# Altium footprint library IEEE_Workshop_Footprints.PcbLib: 26 footprints (part 1 of 2)
Each footprint in its own frame and in the unit in brackets; x right, y up, seen from the top. Pads: shape width x height; smd on the part's side, far side on the other; paste and mask are expansions set on the pad; w line width, h text height; cw(c..) or ccw(c..) is an arc to the next point about the centre after c.
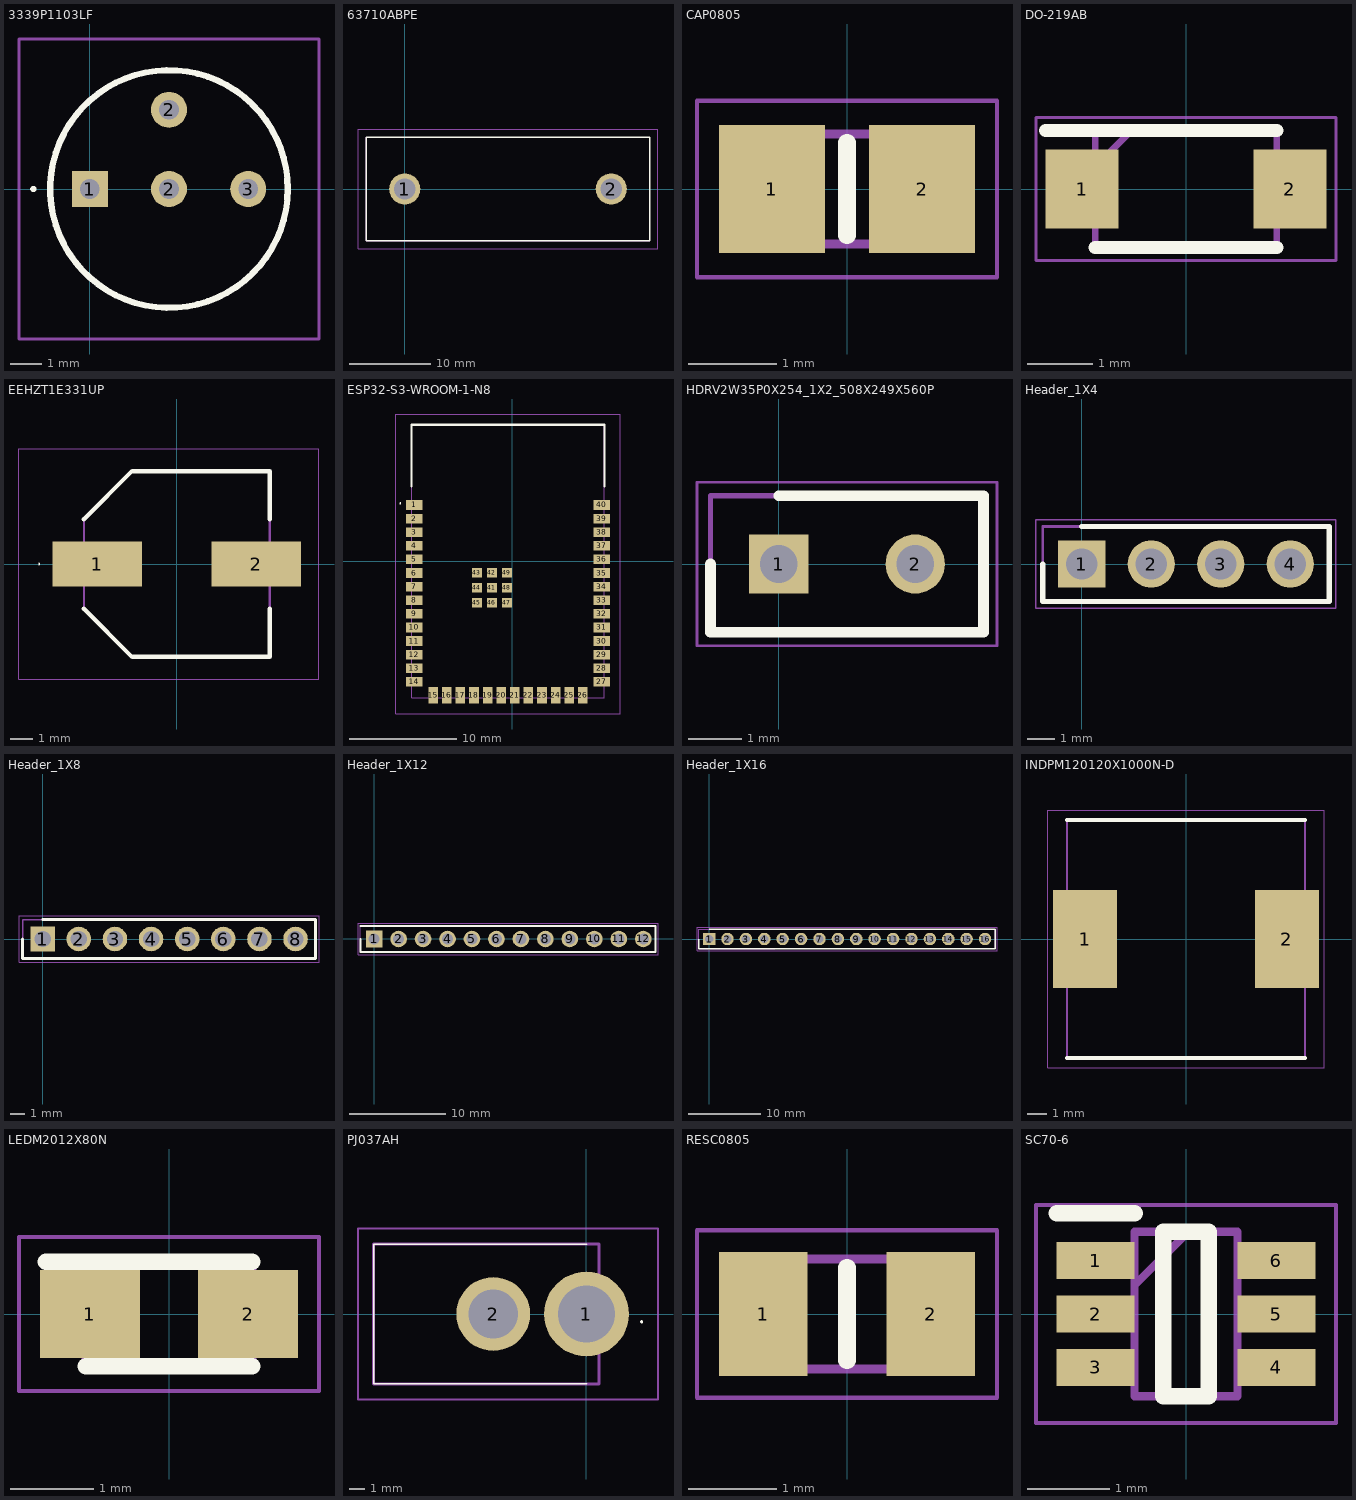
[diagram p0: the footprints below, top view; thin cyan lines are the x and y axes]

## 3339P1103LF [mm]
pads (4):
  rect 1.155x1.155 hole 0.63: 1(0,0)
  round 1.155 hole 0.63: 2(2.54,0) 2(2.54,2.54) 3(5.08,0)
Top Overlay:
  circle w0.2: c2.54,0 r3.81
  lines w0.1: -1.86,0 ccw(c-1.81,0) -1.76,0 ccw(c-1.81,0) -1.86,0
Mechanical 13:
  circle w0.1: c2.54,0 r3.81
Mechanical 15:
  lines w0.1: -2.27,-4.81 7.35,-4.81 7.35,4.81 -2.27,4.81 -2.27,-4.81
3D body "3339P-1-103LF.stp": height 6.42, standoff -4.69, extent -1.27,-3.81 6.35,3.81

## 63710ABPE [mm]
pads (2):
  round 3.84 hole 2.6: 1(0,0) 2(25.4,0)
Top Overlay:
  lines w0.2: -4.75,-6.35 -4.75,6.35 30.15,6.35 30.15,-6.35 -4.75,-6.35
Mechanical 13:
  lines w0.1: -4.75,-6.35 -4.75,6.35 30.15,6.35 30.15,-6.35 -4.75,-6.35
Mechanical 15:
  lines w0.1: -5.75,-7.35 -5.75,7.35 31.15,7.35 31.15,-7.35 -5.75,-7.35
3D body "637-10ABPE.stp": height 25.7, standoff -3.7, extent -5.035,-6.289 30.435,6.289

## CAP0805 [mm] "Chip Capacitor, 2-Leads, Body 2.00x1.20mm, IPC Medium Density"
pads (2):
  rect 1.2x1.45 smd: 1(-0.85,0) 2(0.85,0)
Top Overlay:
  lines w0.2: 0,-0.525 0,0.525
Mechanical 13:
  lines w0.1: -1,-0.625 -1,0.625 1,0.625 1,-0.625 -1,-0.625
Mechanical 15:
  lines w0.05: -1.7,-1 -1.7,1 1.7,1 1.7,-1 -1.7,-1
3D body "HZ0805D102R-10.stp": height 1.1, standoff 0, extent -1,-0.625 1,0.625

## DO-219AB [mm]
pads (2):
  rect 1.12x1.22 smd: 1(-1.6,0) 2(1.6,0)
Top Overlay:
  lines w0.2: -2.16,0.9 1.4,0.9 ; -1.4,-0.9 1.4,-0.9
Mechanical 13:
  lines w0.1: -1.4,0.34 -0.84,0.9 ; -1.4,-0.9 -1.4,0.9 1.4,0.9 1.4,-0.9 -1.4,-0.9
Mechanical 15:
  lines w0.05: -2.31,-1.1 -2.31,1.1 2.31,1.1 2.31,-1.1 -2.31,-1.1
3D body "V3FM10-M3_H.stp": height 1.08, standoff 0, extent -1.85,-0.9 1.85,0.9

## EEHZT1E331UP [mm]
pads (2):
  rect 4x2 smd: 1(-3.55,0) 2(3.55,0)
Top Overlay:
  lines w0.05: -6.175,0 ccw(c-6.15,0) -6.125,0 ccw(c-6.15,0) -6.175,0
  lines w0.2: -4.15,-2 -2,-4.15 4.15,-4.15 4.15,-2 ; -4.15,2 -2,4.15 4.15,4.15 4.15,2
Mechanical 13:
  lines w0.1: -4.15,2 -2,4.15 ; -4.15,2 -4.15,-2 -2,-4.15 4.15,-4.15 4.15,4.15 -2,4.15 ; -4.15,2 -2,4.15
Mechanical 15:
  lines w0.05: -7.05,-5.15 6.35,-5.15 6.35,5.15 -7.05,5.15 -7.05,-5.15
3D body "EEE-FN1V271UP.stp": height 10.2, standoff 0, extent -4.79,-4.15 4.91,4.15

## ESP32-S3-WROOM-1-N8 [mm]
pads (49):
  rect 1.5x0.9 smd: 1(-9.131,5.26) 2(-9.131,3.99) 3(-9.131,2.72) 4(-9.131,1.45) 5(-9.131,0.18) 6(-9.131,-1.09) 7(-9.131,-2.36) 8(-9.131,-3.63) 9(-9.131,-4.9) 10(-9.131,-6.17) 11(-9.131,-7.44) 12(-9.131,-8.71) 13(-9.131,-9.98) 14(-9.131,-11.25) 27(8.369,-11.25) 28(8.369,-9.98) 29(8.369,-8.71) 30(8.369,-7.44) 31(8.369,-6.17) 32(8.369,-4.9) 33(8.369,-3.63) 34(8.369,-2.36) 35(8.369,-1.09) 36(8.369,0.18) 37(8.369,1.45) 38(8.369,2.72) 39(8.369,3.99) 40(8.369,5.26)
  rect 0.9x1.5 smd: 15(-7.366,-12.5) 16(-6.096,-12.5) 17(-4.826,-12.5) 18(-3.556,-12.5) 19(-2.286,-12.5) 20(-1.016,-12.5) 21(0.254,-12.5) 22(1.524,-12.5) 23(2.794,-12.5) 24(4.064,-12.5) 25(5.334,-12.5) 26(6.604,-12.5)
  rect 0.9x0.9 smd: 41(-1.881,-2.46) 42(-1.881,-1.06) 43(-3.281,-1.06) 44(-3.281,-2.46) 45(-3.281,-3.86) 46(-1.881,-3.86) 47(-0.481,-3.86) 48(-0.481,-2.46) 49(-0.481,-1.06)
Top Overlay:
  lines w0.1: -10.481,5.4 ccw(c-10.431,5.4) -10.381,5.4 ccw(c-10.431,5.4) -10.481,5.4
  lines w0.2: -9.381,7 -9.381,12.75 8.619,12.75 8.619,7
Mechanical 13:
  lines w0.1: -9.381,-12.75 -9.381,12.75 8.619,12.75 8.619,-12.75 -9.381,-12.75
Mechanical 15:
  lines w0.1: -10.881,-14.25 -10.881,13.75 10.119,13.75 10.119,-14.25 -10.881,-14.25
3D body "ESP32-S3-WROOM-1-N8R2.stp": height 2.7, standoff -0.4, extent -9.381,-12.75 8.619,12.75

## HDRV2W35P0X254_1X2_508X249X560P [mm]
pads (2):
  rect 1.1x1.1 hole 0.7: 1(0,0)
  round 1.1 hole 0.7: 2(2.54,0)
Top Overlay:
  lines w0.2: -1.27,0 -1.27,-1.27 3.81,-1.27 3.81,1.27 0,1.27
Mechanical 13:
  lines w0.1: -1.27,-1.27 3.81,-1.27 3.81,1.27 -1.27,1.27 -1.27,-1.27
Mechanical 15:
  lines w0.05: -1.52,-1.52 4.06,-1.52 4.06,1.52 -1.52,1.52 -1.52,-1.52
3D body "90120-0762.stp": height 9.18, standoff -2.94, extent -1.26,-1.25 3.82,1.25

## Header_1X4 [mm]
pads (4):
  rect 1.725x1.725 hole 1.15: 1(0,0)
  round 1.725 hole 1.15: 2(2.54,0) 3(5.08,0) 4(7.62,0)
Top Overlay:
  lines w0.2: -1.42,0 -1.42,-1.37 9.04,-1.37 9.04,1.37 0,1.37
Mechanical 13:
  lines w0.1: -1.42,-1.37 9.04,-1.37 9.04,1.37 -1.42,1.37 -1.42,-1.37
Mechanical 15:
  lines w0.05: -1.67,-1.62 9.29,-1.62 9.29,1.62 -1.67,1.62 -1.67,-1.62

## Header_1X8 [mm]
pads (8):
  rect 1.725x1.725 hole 1.15: 1(0,0)
  round 1.725 hole 1.15: 2(2.54,0) 3(5.08,0) 4(7.62,0) 5(10.16,0) 6(12.7,0) 7(15.24,0) 8(17.78,0)
Top Overlay:
  lines w0.2: -1.42,0 -1.42,-1.37 19.177,-1.37 19.177,1.37 0,1.37
Mechanical 13:
  lines w0.1: 9.04,-1.37 -1.42,-1.37 -1.42,1.37 9.04,1.37 ; 19.2,-1.37 19.2,1.37
Mechanical 15:
  lines w0.05: -1.67,-1.62 19.431,-1.62 19.431,1.62 -1.67,1.62 -1.67,-1.62

## Header_1X12 [mm]
pads (12):
  rect 1.725x1.725 hole 1.15: 1(0,0)
  round 1.725 hole 1.15: 2(2.54,0) 3(5.08,0) 4(7.62,0) 5(10.16,0) 6(12.7,0) 7(15.24,0) 8(17.78,0) 9(20.32,0) 10(22.86,0) 11(25.4,0) 12(27.94,0)
Top Overlay:
  lines w0.2: -1.42,-1.37 -1.42,0 ; -1.397,-1.37 29.21,-1.37 29.21,-0.685 29.21,0.685 29.21,1.37 -1.397,1.37
Mechanical 13:
  lines w0.1: 9.04,-1.37 -1.42,-1.37 -1.42,1.37 9.04,1.37 ; 29.21,-1.397 29.21,1.343
Mechanical 15:
  lines w0.05: -1.67,-1.62 -1.67,1.62 ; -1.651,-1.62 29.464,-1.62 29.464,1.62 -1.651,1.62

## Header_1X16 [mm]
pads (16):
  rect 1.725x1.725 hole 1.15: 1(0,0)
  round 1.725 hole 1.15: 2(2.54,0) 3(5.08,0) 4(7.62,0) 5(10.16,0) 6(12.7,0) 7(15.24,0) 8(17.78,0) 9(20.32,0) 10(22.86,0) 11(25.4,0) 12(27.94,0) 13(30.48,0) 14(33.02,0) 15(35.56,0) 16(38.1,0)
Top Overlay:
  lines w0.2: -1.42,0 -1.42,-1.37 39.497,-1.37 39.497,1.37 0,1.37
Mechanical 13:
  lines w0.1: 9.04,-1.37 -1.42,-1.37 -1.42,1.37 9.04,1.37 ; 39.52,-1.37 39.52,1.37
Mechanical 15:
  lines w0.05: -1.67,-1.62 39.751,-1.62 39.751,1.62 -1.67,1.62 -1.67,-1.62

## INDPM120120X1000N-D [mm]
pads (2):
  rect 3.25x4.95 smd: 1(-5.1,0) 2(5.1,0)
Top Overlay:
  lines w0.2: -6,-6 6,-6 ; -6,6 6,6
Mechanical 13:
  lines w0.1: -6,-6 6,-6 6,6 -6,6 -6,-6
Mechanical 15:
  lines w0.05: -6.975,-6.5 6.975,-6.5 6.975,6.5 -6.975,6.5 -6.975,-6.5
3D body "SRR1210-151M.stp": height 10, standoff 0, extent -6,-6 6,6

## LEDM2012X80N [mm]
pads (2):
  rect 1.2x1.05 smd: 1(-0.95,0) 2(0.95,0)
Top Overlay:
  lines w0.2: -1.475,0.625 1,0.625 ; -1,-0.625 1,-0.625
Mechanical 13:
  lines w0.1: -1,0.1 -0.475,0.625 ; -1,-0.625 1,-0.625 1,0.625 -1,0.625 -1,-0.625
Mechanical 15:
  lines w0.05: -1.8,-0.925 1.8,-0.925 1.8,0.925 -1.8,0.925 -1.8,-0.925
3D body "150080GS75000.stp": height 0.7, standoff 0, extent -1,-0.625 1,0.625

## PJ037AH [mm]
pads (2):
  round 5.46 hole 3.64: 1(0,0)
  round 4.74 hole 3.16: 2(-6,0)
Top Overlay:
  lines w0.1: 0,-4.5 -13.7,-4.5 -13.7,4.5 0,4.5 ; 3.5,-0.5 ccw(c3.55,-0.5) 3.6,-0.5 ccw(c3.55,-0.5) 3.5,-0.5
Mechanical 13:
  lines w0.2: -13.7,-4.5 0.8,-4.5 0.8,4.5 -13.7,4.5 -13.7,-4.5
Mechanical 15:
  lines w0.1: -14.7,-5.5 4.6,-5.5 4.6,5.5 -14.7,5.5 -14.7,-5.5
3D body "PJ-037AH.stp": height 11, standoff -3.49, extent -13.5,-4.5 1,4.5

## RESC0805 [mm] "Chip Resistor, 2-Leads, Body 2.00x1.20mm, IPC Medium Density"
height 0.6
pads (2):
  rect 1x1.4 smd: 1(-0.95,0) 2(0.95,0)
Top Overlay:
  lines w0.2: 0,-0.525 0,0.525
Mechanical 13:
  lines w0.1: -1,-0.625 -1,0.625 1,0.625 1,-0.625 -1,-0.625
Mechanical 15:
  lines w0.05: -1.7,-0.95 -1.7,0.95 1.7,0.95 1.7,-0.95 -1.7,-0.95
3D body "CR0805-FX-1781ELF.stp": height 0.5, standoff 0, extent -1,-0.625 1,0.625

## SC70-6 [mm]
pads (6):
  rect 0.95x0.45 smd: 1(-1.1,0.65) 2(-1.1,0) 3(-1.1,-0.65) 4(1.1,-0.65) 5(1.1,0) 6(1.1,0.65)
Top Overlay:
  lines w0.2: -1.575,1.225 -0.625,1.225 ; -0.275,-1 -0.275,1 0.275,1 0.275,-1 -0.275,-1
Mechanical 13:
  lines w0.1: -0.625,0.35 0.025,1 ; -0.625,-1 -0.625,1 0.625,1 0.625,-1 -0.625,-1
Mechanical 15:
  lines w0.05: -1.825,-1.325 -1.825,1.325 1.825,1.325 1.825,-1.325 -1.825,-1.325
3D body "LM66100DCKR.stp": height 1, standoff 0, extent -1.05,-1 1.05,1